# Altium schematic symbol library DIOD-PEMOS-G1S2D3-3.SchLib: 1 symbol
Pins are listed as number, name and electrical type; pins without a type are passive.

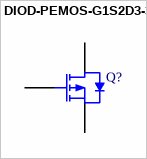
[diagram p0: symbol DIOD-PEMOS-G1S2D3-3]

## DIOD-PEMOS-G1S2D3-3
designator Q?
pins: 1 G, 2 S, 3 D